# EAGLE library part 11PIN (library jst_eph)
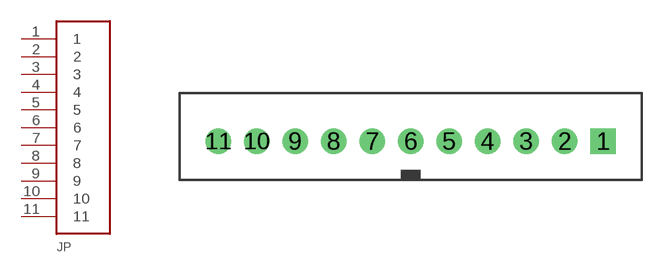
[diagram p5: symbol with the pads of B11B-PH-K-S; footprint B11B-PH-K-S]

Designator prefix JP

## 11PIN  [B11B-PH-K-S]
1  1
2  2
3  3
4  4
5  5
6  6
7  7
8  8
9  9
10  10
11  11

## Footprint B11B-PH-K-S (pad centres in mm)
drill 0.813 square: 1 10,0
drill 0.813: 2 8,0; 3 6,0; 4 4,0; 5 2,0; 6 0,0; 7 -2,0; 8 -4,0; 9 -6,0; 10 -8,0; 11 -10,0